# Altium footprint library MOV10D560KKTR.PcbLib: 1 footprints
Each footprint in its own frame and in the unit in brackets; x right, y up, seen from the top. Pads: shape width x height; smd on the part's side, far side on the other; paste and mask are expansions set on the pad; w line width, h text height; cw(c..) or ccw(c..) is an arc to the next point about the centre after c.
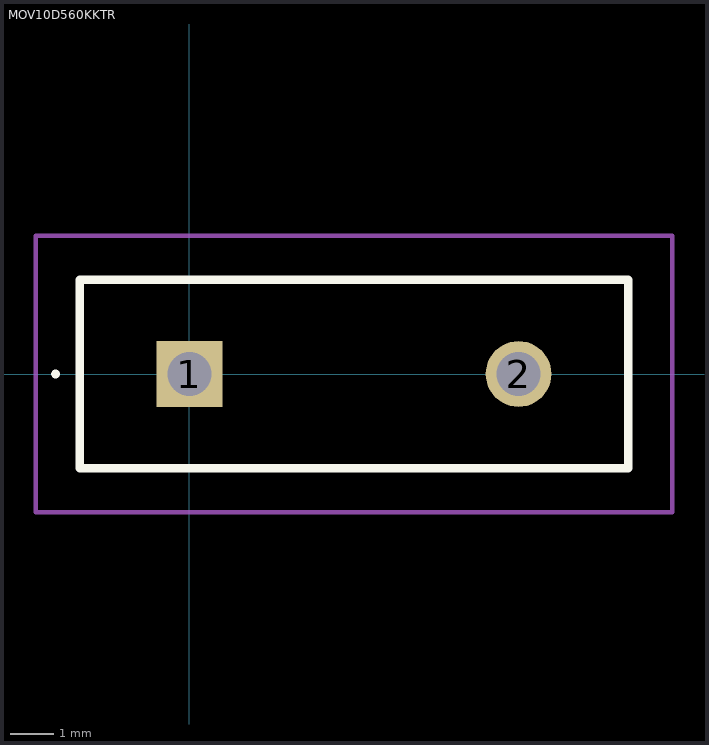
[diagram p0: the footprint, top view; thin cyan lines are the x and y axes]

## MOV10D560KKTR [mm]
pads (2):
  rect 1.5x1.5 hole 1: 1(0,0)
  round 1.5 hole 1: 2(7.5,0)
Top Overlay:
  lines w0.1: -3.1,0 -3.1,0 ; -3.1,0 ccw(c-3.05,0) -3,0 ; -3.1,0 cw(c-3.05,0) -3,0 ; -3,0 -3,0
  lines w0.2: -2.5,-2.15 10,-2.15 10,2.15 -2.5,2.15 -2.5,-2.15
Mechanical 15:
  lines w0.1: -2.5,-2.15 10,-2.15 10,2.15 -2.5,2.15 -2.5,-2.15
Mechanical 20:
  lines w0.1: -3.5,-3.15 11,-3.15 11,3.15 -3.5,3.15 -3.5,-3.15